# EAGLE library part PIC18F2331 (library den)
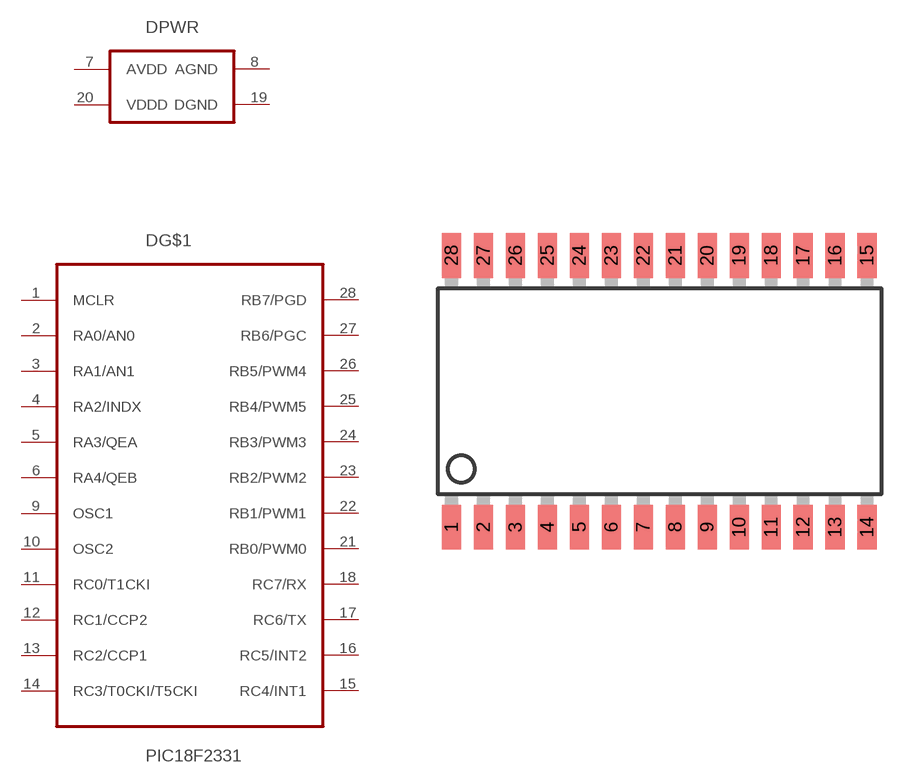
[diagram p14: symbol with the pads of SO-28W; footprint SO-28W]

Designator prefix D; gates G$1=PIC18F2331 PWR=VCCA

## PIC18F2331  [SO-28W]
1  G$1:MCLR
2  G$1:RA0/AN0
3  G$1:RA1/AN1
4  G$1:RA2/INDX
5  G$1:RA3/QEA
6  G$1:RA4/QEB
7  PWR:AVDD  pwr
8  PWR:AGND  pwr
9  G$1:OSC1
10  G$1:OSC2
11  G$1:RC0/T1CKI
12  G$1:RC1/CCP2
13  G$1:RC2/CCP1
14  G$1:RC3/T0CKI/T5CKI
15  G$1:RC4/INT1
16  G$1:RC5/INT2
17  G$1:RC6/TX
18  G$1:RC7/RX
19  PWR:DGND  pwr
20  PWR:VDDD  pwr
21  G$1:RB0/PWM0
22  G$1:RB1/PWM1
23  G$1:RB2/PWM2
24  G$1:RB3/PWM3
25  G$1:RB4/PWM5
26  G$1:RB5/PWM4
27  G$1:RB6/PGC
28  G$1:RB7/PGD

## Footprint SO-28W (pad centres in mm)
Small Outline Wide Plastic Gull Wing 300-mil body, package type SO
smd 0.762 x 1.778: 1 -7.62,-5.461; 2 -6.35,-5.461; 3 -5.08,-5.461; 4 -3.81,-5.461; 5 -2.54,-5.461; 6 -1.27,-5.461; 7 0,-5.461; 8 1.27,-5.461; 9 2.54,-5.461; 10 3.81,-5.461; 11 5.08,-5.461; 12 6.35,-5.461; 13 7.62,-5.461; 14 8.89,-5.461; 15 8.89,5.334; 16 7.62,5.334; 17 6.35,5.334; 18 5.08,5.334; 19 3.81,5.334; 20 2.54,5.334; 21 1.27,5.334; 22 0,5.334; 23 -1.27,5.334; 24 -2.54,5.334; 25 -3.81,5.334; 26 -5.08,5.334; 27 -6.35,5.334; 28 -7.62,5.334